# Altium schematic symbol library C0805C106K8PACTU.SchLib: 1 symbol
Pins are listed as number, name and electrical type; pins without a type are passive.

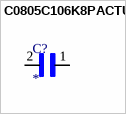
[diagram p0: symbol C0805C106K8PACTU]

## C0805C106K8PACTU
designator C?
MP: C0805C106K8PACTU; MF: {'manufacturer': u'KEMET'}; Package: None; Value: *; Availability: Unavailable; Price: None
footprint CAPC2012X88N
pins: 1, 2